# EAGLE library part LTC6946 (library linear-technology)
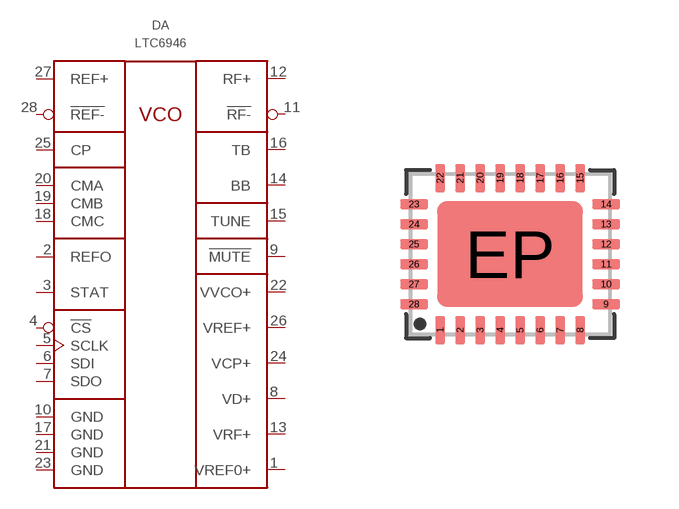
[diagram p1: symbol with the pads of 28-LQFN; footprint 28-LQFN]

Designator prefix DA

## LTC6946IUFD-1#PBF  [28-LQFN]
1  VREF0+  pas
2  REFO  pas
3  STAT  pas
4  !CS  in
5  SCLK  in
6  SDI  in
7  SDO  in
8  VD+  pwr
9  !MUTE  in
10  GND  pwr
11  !RF-  out
12  RF+  out
13  VRF+  pas
14  BB  pas
15  TUNE  in
16  TB  pas
17  GND  pwr
18  CMC  pas
19  CMB  pas
20  CMA  pas
21  GND  pwr
22  VVCO+  pwr
23  GND  pwr
24  VCP+  pwr
25  CP  in
26  VREF+  pas
27  REF+  in
28  !REF-  in

## LTC6946IUFD-2#PBF  [28-LQFN]
Pads as for 28-LQFN

## LTC6946IUFD-3#PBF  [28-LQFN]
Pads as for 28-LQFN

## LTC6946IUFD-4#PBF  [28-LQFN]
Pads as for 28-LQFN

## Footprint 28-LQFN (pad centres in mm)
smd 0.25 x 0.7: 1 -1.75,-1.9; 2 -1.25,-1.9; 3 -0.75,-1.9; 4 -0.25,-1.9; 5 0.25,-1.9; 6 0.75,-1.9; 7 1.25,-1.9; 8 1.75,-1.9; 15 1.75,1.9; 16 1.25,1.9; 17 0.75,1.9; 18 0.25,1.9; 19 -0.25,1.9; 20 -0.75,1.9; 21 -1.25,1.9; 22 -1.75,1.9
smd 0.7 x 0.25: 9 2.4,-1.25; 10 2.4,-0.75; 11 2.4,-0.25; 12 2.4,0.25; 13 2.4,0.75; 14 2.4,1.25; 23 -2.4,1.25; 24 -2.4,0.75; 25 -2.4,0.25; 26 -2.4,-0.25; 27 -2.4,-0.75; 28 -2.4,-1.25
smd 3.65 x 2.65: EP 0,0